# EAGLE library part IPL1-1XX-02-XXX-DH-K-XX-MKT (library avc)
Terminal Header 2x10 Right Angle
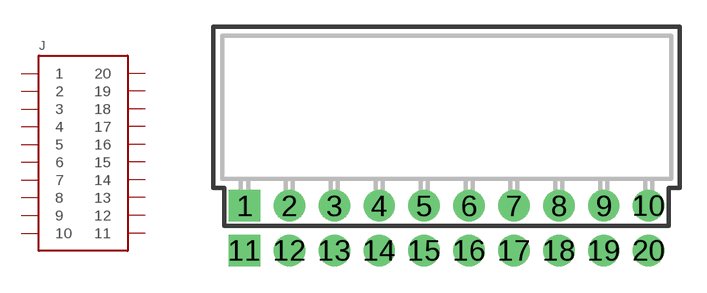
[diagram p1: symbol with the pads of IPL1-110-01-S-RA; footprint IPL1-110-01-S-RA]

Designator prefix J

## IPL1-1XX-02-XXX-DH-K-XX-MKT (PARTNUM: IPL1-110-01-L-D-RA-K)  [IPL1-110-01-S-RA]
1  1
2  2
3  3
4  4
5  5
6  6
7  7
8  8
9  9
10  10
11  11
12  12
13  13
14  14
15  15
16  16
17  17
18  18
19  19
20  20

## Footprint IPL1-110-01-S-RA (pad centres in mm)
PCB Libraries Package
drill 1.016 pad 1.778 square: 1 0,0; 11 0,-2.54
drill 1.016 pad 1.778 round: 2 2.54,0; 3 5.08,0; 4 7.62,0; 5 10.16,0; 6 12.7,0; 7 15.24,0; 8 17.78,0; 9 20.32,0; 10 22.86,0; 12 2.54,-2.54; 13 5.08,-2.54; 14 7.62,-2.54; 15 10.16,-2.54; 16 12.7,-2.54; 17 15.24,-2.54; 18 17.78,-2.54; 19 20.32,-2.54; 20 22.86,-2.54